# Altium footprint library PCB_Ethernet.PcbLib: 1 footprints
Each footprint in its own frame and in the unit in brackets; x right, y up, seen from the top. Pads: shape width x height; smd on the part's side, far side on the other; paste and mask are expansions set on the pad; w line width, h text height; cw(c..) or ccw(c..) is an arc to the next point about the centre after c.
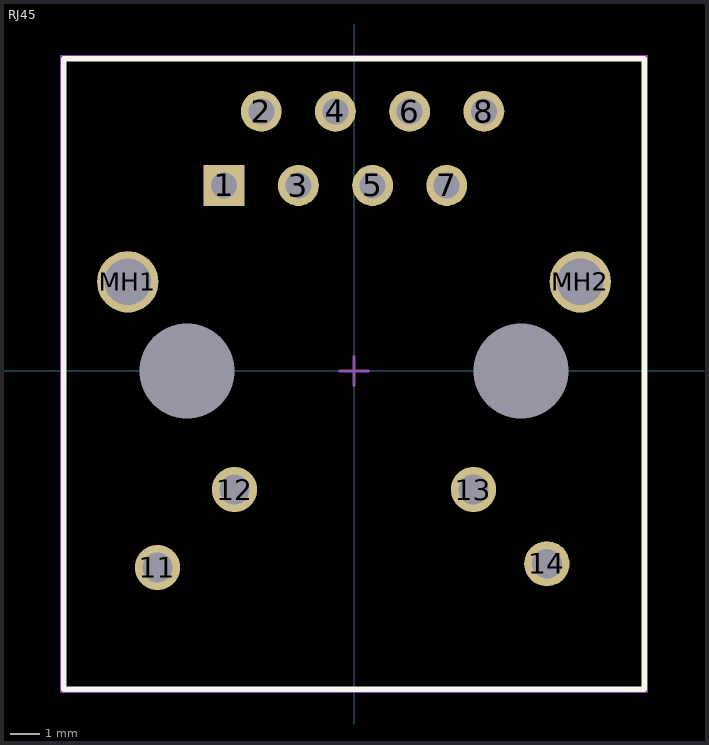
[diagram p0: the footprint, top view; thin cyan lines are the x and y axes]

## RJ45 [mm] "FastJack Gigabit Ethernet RJ45, Body 21.59x19.88mm, Height 15.64mm"
height 15.64
pads (16):
  rect 1.4x1.4 hole 0.89: 1(-4.445,6.35)
  round 1.4 hole 0.89: 2(-3.175,8.89) 3(-1.905,6.35) 4(-0.635,8.89) 5(0.635,6.35) 6(1.905,8.89) 7(3.175,6.35) 8(4.445,8.89)
  round 1.55 hole 1.02: 11(-6.731,-6.731) 12(-4.09,-4.06) 13(4.09,-4.06) 14(6.604,-6.604)
  round 2.1 hole 1.6: MH1(-7.745,3.05) MH2(7.745,3.05)
  round 3 hole 3.25 unplated: ""(-5.715,0) ""(5.715,0)
Top Overlay:
  lines w0.2: -9.94,-10.9 -9.94,10.69 9.94,10.69 9.94,-10.9 -9.94,-10.9
Mechanical 13:
  circle w0.1: c5.715,0 r1.18
  circle w0.1: c7.745,3.05 r0.675
  circle w0.1: c-0.635,8.89 r0.325
  circle w0.1: c1.905,8.89 r0.325
  circle w0.1: c4.445,8.89 r0.325
  circle w0.1: c-1.905,6.35 r0.325
  circle w0.1: c0.635,6.35 r0.325
  circle w0.1: c3.175,6.35 r0.325
  circle w0.1: c-4.445,6.35 r0.325
  circle w0.1: c-3.175,8.89 r0.325
  circle w0.1: c-7.745,3.05 r0.675
  circle w0.1: c-5.715,0 r1.18
  circle w0.1: c-4.09,-4.06 r0.375
  circle w0.1: c-6.731,-6.731 r0.375
  circle w0.1: c6.604,-6.604 r0.375
  circle w0.1: c4.09,-4.06 r0.375
  lines w0.1: -9.94,-10.9 9.94,-10.9 9.94,10.69 -9.94,10.69 -9.94,-10.9
Mechanical 15:
  lines w0.05: -10.04,-11 -10.04,10.79 10.04,10.79 10.04,-11 -10.04,-11
  lines w0.1: -0.5,0 0.5,0 ; 0,-0.5 0,0.5
3D body: height 15.6, standoff 0, extent -9.938,-10.9 9.939,10.7
3D body: height 0, standoff -3.05, extent 4.525,-1.19 6.905,1.19
3D body: height 0, standoff -3.05, extent -6.905,-1.19 -4.525,1.19
3D body: height 0, standoff -3.05, extent 7.065,2.37 8.425,3.73
3D body: height 0, standoff -3.05, extent -0.966,8.559 -0.304,9.221
3D body: height 0, standoff -3.05, extent 1.574,8.559 2.236,9.221
3D body: height 0, standoff -3.05, extent 4.114,8.559 4.776,9.221
3D body: height 0, standoff -3.05, extent -2.236,6.019 -1.574,6.681
3D body: height 0, standoff -3.05, extent 0.304,6.019 0.966,6.681
3D body: height 0, standoff -3.05, extent 2.844,6.019 3.506,6.681
3D body: height 0, standoff -3.05, extent -4.776,6.019 -4.114,6.681
3D body: height 0, standoff -3.05, extent -3.506,8.559 -2.844,9.221
3D body: height 0, standoff -3.05, extent -8.425,2.37 -7.065,3.73
3D body: height 0, standoff -3.05, extent -4.472,-4.442 -3.708,-3.678
3D body: height 0, standoff -3.05, extent -7.113,-7.113 -6.349,-6.349
3D body: height 0, standoff -3.05, extent 6.28,-6.94 7.043,-6.176
3D body: height 0, standoff -3.05, extent 3.708,-4.442 4.472,-3.678